# EAGLE library part LAN95XX-BOARD (library lan95xxboard)
LAN95XX Adapter Board Please take care to bridge together: 15VDD18CORE with 38VDD18CORE 48VDD18ETHPLL with 62VDD18USBPLL all four (4) GND pins visit https://github.com/dumpsite/LAN95XX-board
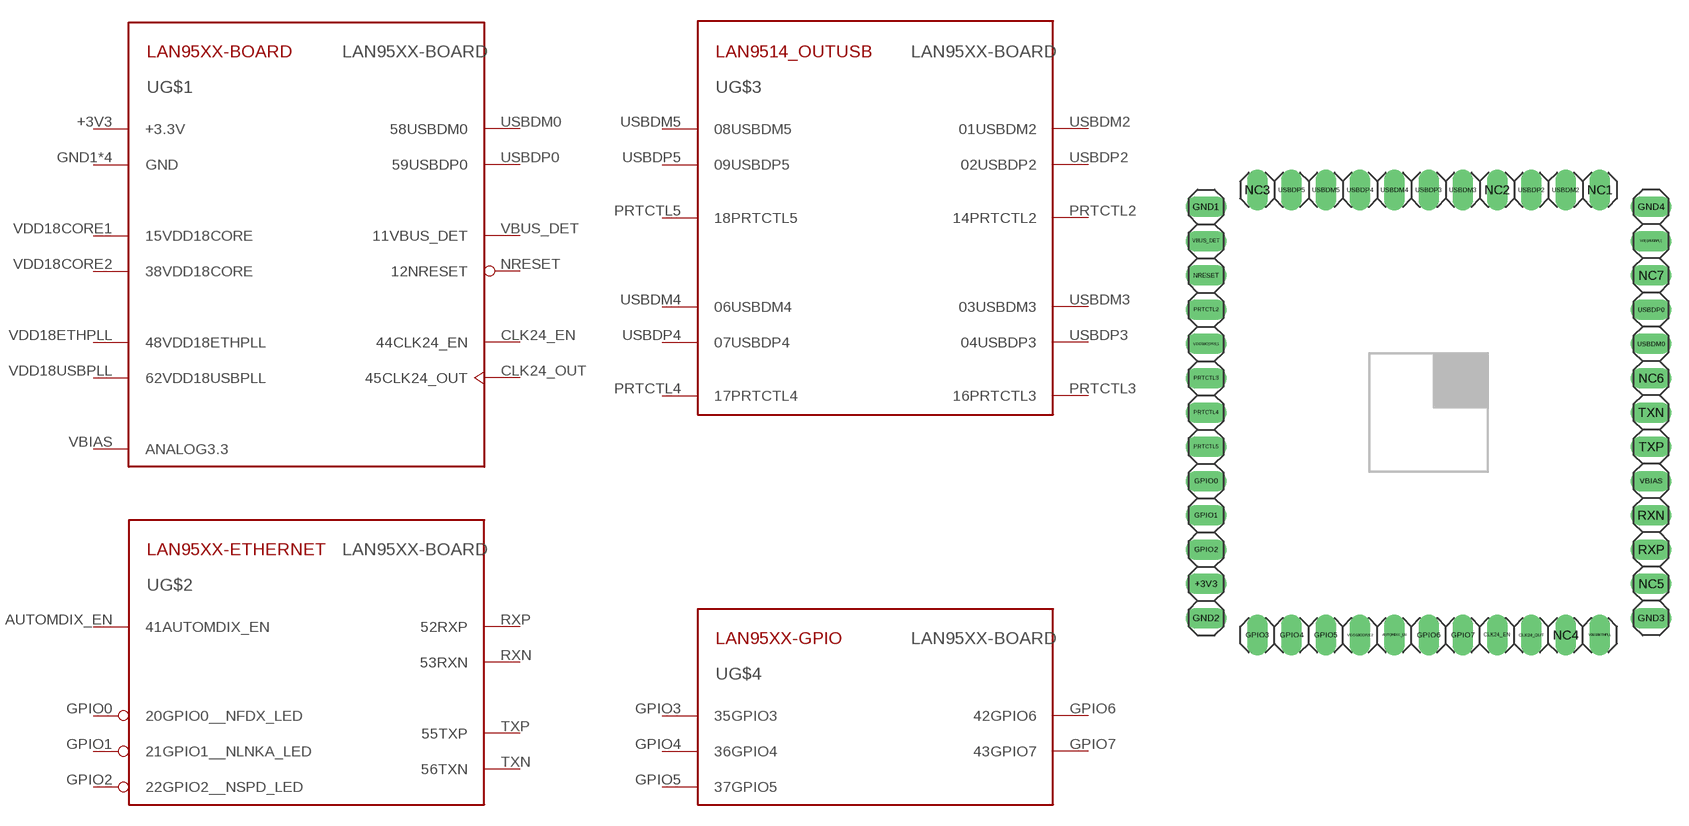
[diagram p0: symbol with the pads of LAN95XX-BOARD; footprint LAN95XX-BOARD]

Designator prefix -; gates G$1=LAN95XX-BOARD G$2=LAN95XX-ETHERNET G$3=LAN9514_OUTUSB G$4=LAN95XX-GPIO

## LAN95XX-BOARD  [LAN95XX-BOARD]
+3V3  G$1:+3.3V  pwr
AUTOMDIX_EN  G$2:41AUTOMDIX_EN  in
CLK24_EN  G$1:44CLK24_EN  in
CLK24_OUT  G$1:45CLK24_OUT  out
GND1  G$1:GND  pwr
GND2  G$1:GND  pwr
GND3  G$1:GND  pwr
GND4  G$1:GND  pwr
GPIO0  G$2:20GPIO0__NFDX_LED
GPIO1  G$2:21GPIO1__NLNKA_LED
GPIO2  G$2:22GPIO2__NSPD_LED
GPIO3  G$4:35GPIO3
GPIO4  G$4:36GPIO4
GPIO5  G$4:37GPIO5
GPIO6  G$4:42GPIO6
GPIO7  G$4:43GPIO7
NRESET  G$1:12NRESET  in
PRTCTL2  G$3:14PRTCTL2
PRTCTL3  G$3:16PRTCTL3
PRTCTL4  G$3:17PRTCTL4
PRTCTL5  G$3:18PRTCTL5
RXN  G$2:53RXN
RXP  G$2:52RXP
TXN  G$2:56TXN
TXP  G$2:55TXP
USBDM0  G$1:58USBDM0
USBDM2  G$3:01USBDM2
USBDM3  G$3:03USBDM3
USBDM4  G$3:06USBDM4
USBDM5  G$3:08USBDM5
USBDP0  G$1:59USBDP0
USBDP2  G$3:02USBDP2
USBDP3  G$3:04USBDP3
USBDP4  G$3:07USBDP4
USBDP5  G$3:09USBDP5
VBIAS  G$1:ANALOG3.3  out
VBUS_DET  G$1:11VBUS_DET  pas
VDD18CORE1  G$1:15VDD18CORE  pwr
VDD18CORE2  G$1:38VDD18CORE  pwr
VDD18ETHPLL  G$1:48VDD18ETHPLL  pwr
VDD18USBPLL  G$1:62VDD18USBPLL  pwr

## Footprint LAN95XX-BOARD (pad centres in mm)
drill 1.016 long: +3V3 -16.5,-12.7; AUTOMDIX_EN -2.54,-16.5; CLK24_EN 5.08,-16.5; CLK24_OUT 7.62,-16.5; GND1 -16.5,15.24; GND2 -16.5,-15.24; GND3 16.5,-15.24; GND4 16.5,15.24; GPIO0 -16.5,-5.08; GPIO1 -16.5,-7.62; GPIO2 -16.5,-10.16; GPIO3 -12.7,-16.5; GPIO4 -10.16,-16.5; GPIO5 -7.62,-16.5; GPIO6 0,-16.5; GPIO7 2.54,-16.5; NC1 12.7,16.5; NC2 5.08,16.5; NC3 -12.7,16.5; NC4 10.16,-16.5; NC5 16.5,-12.7; NC6 16.5,2.54; NC7 16.5,10.16; NRESET -16.5,10.16; PRTCTL2 -16.5,7.62; PRTCTL3 -16.5,2.54; PRTCTL4 -16.5,0; PRTCTL5 -16.5,-2.54; RXN 16.5,-7.62; RXP 16.5,-10.16; TXN 16.5,0; TXP 16.5,-2.54; USBDM0 16.5,5.08; USBDM2 10.16,16.5; USBDM3 2.54,16.5; USBDM4 -2.54,16.5; USBDM5 -7.62,16.5; USBDP0 16.5,7.62; USBDP2 7.62,16.5; USBDP3 0,16.5; USBDP4 -5.08,16.5; USBDP5 -10.16,16.5; VBIAS 16.5,-5.08; VBUS_DET -16.5,12.7; VDD18CORE1 -16.5,5.08; VDD18CORE2 -5.08,-16.5; VDD18ETHPLL 12.7,-16.5; VDD18USBPLL 16.5,12.7